# Altium footprint library Capacitor.PcbLib: 17 footprints (part 1 of 2)
Each footprint in its own frame and in the unit in brackets; x right, y up, seen from the top. Pads: shape width x height; smd on the part's side, far side on the other; paste and mask are expansions set on the pad; w line width, h text height; cw(c..) or ccw(c..) is an arc to the next point about the centre after c.
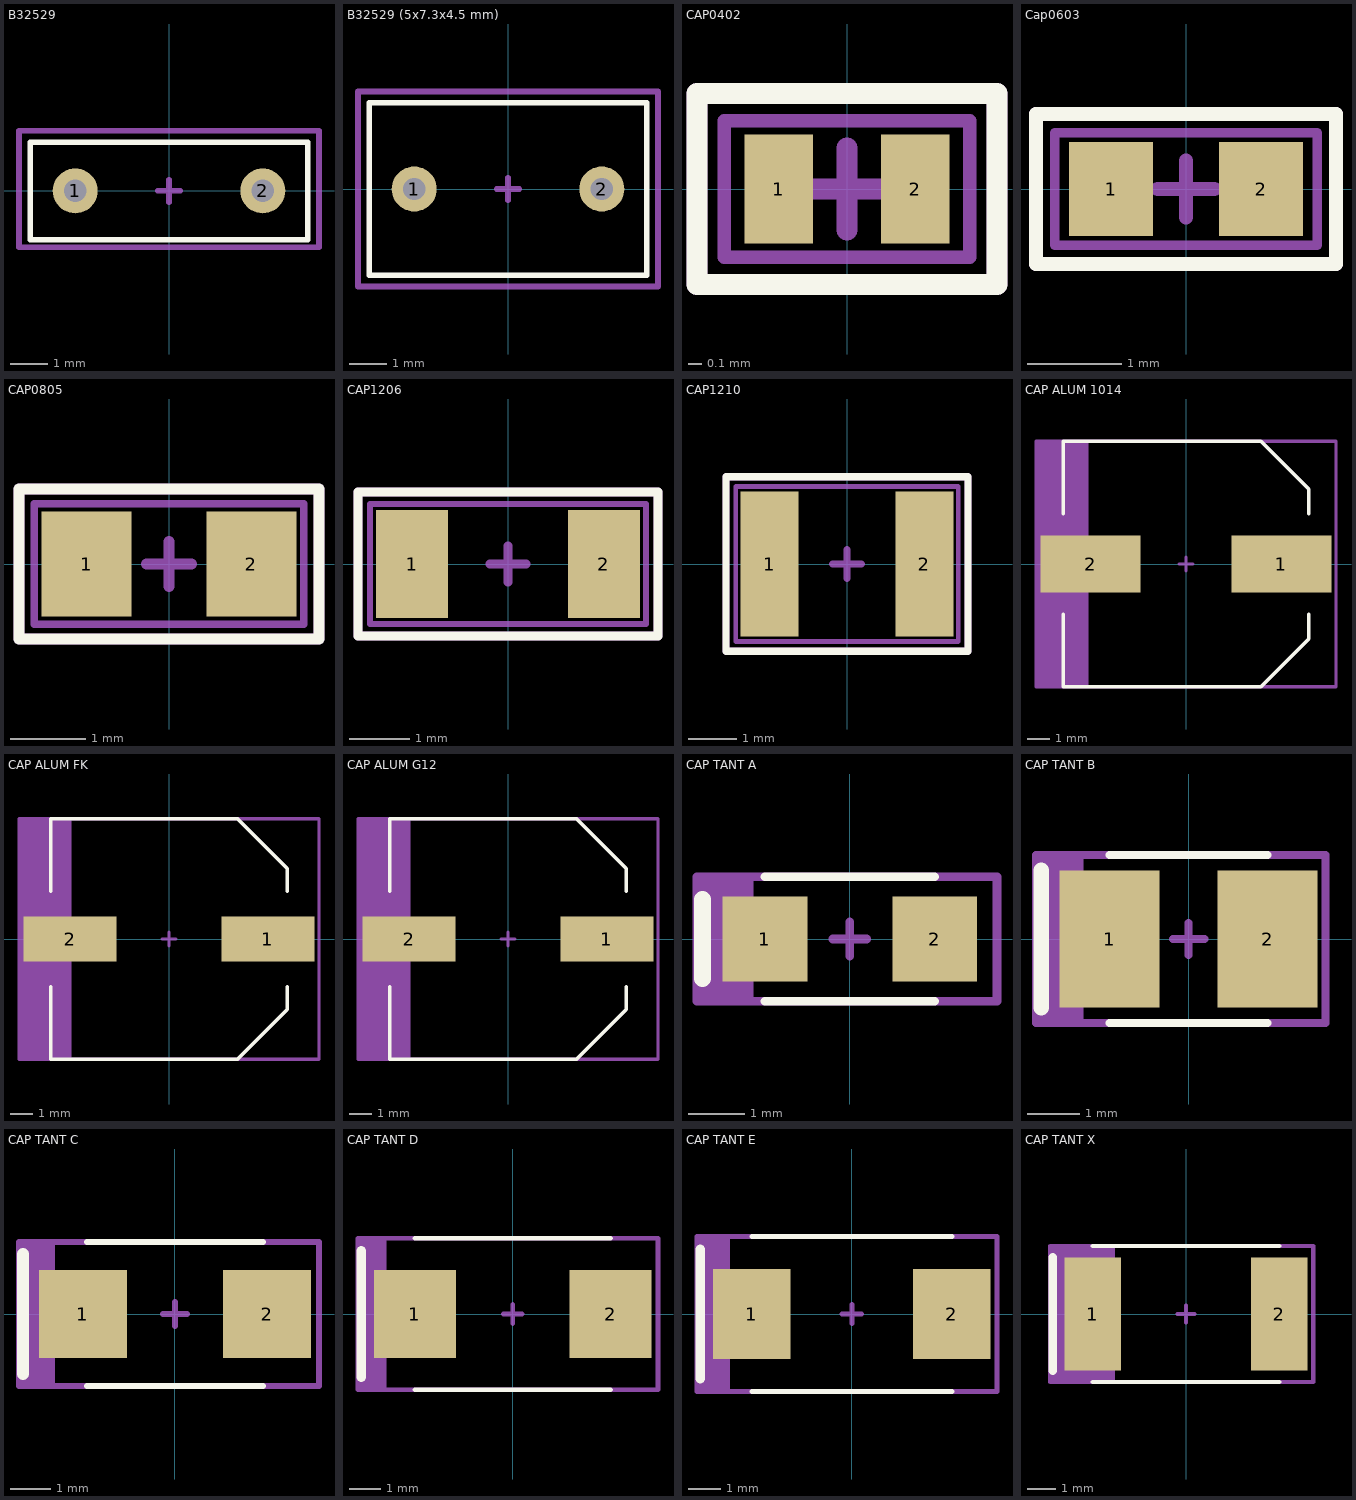
[diagram p0: the footprints below, top view; thin cyan lines are the x and y axes]

## B32529 [mm]
pads (2):
  round 1.2 hole 0.6: 1(-2.5,0) 2(2.5,0)
Top Overlay:
  lines w0.153: -3.7,-1.3 3.7,-1.3 3.7,1.3 -3.7,1.3 -3.7,-1.3
Top Assembly:
  lines w0.1: -3.7,-1.3 3.7,-1.3 3.7,1.3 -3.7,1.3 -3.7,-1.3
  text "'.Designator'" at -4.532,-0.333 h0.8
Top Courtyard:
  lines w0.153: -0.3,0 0.3,0 ; 0,-0.3 0,0.3 ; -4,-1.5 4,-1.5 4,1.6 -4,1.6 -4,-1.5
3D body "B32529C1104J189.STEP": height 6.5, standoff -6, extent -3.65,-1.25 3.65,1.25

## B32529 (5x7.3x4.5 mm) [mm]
pads (2):
  round 1.2 hole 0.6: 1(-2.5,0) 2(2.5,0)
Top Overlay:
  lines w0.153: -3.7,-2.3 3.7,-2.3 3.7,2.3 -3.7,2.3 -3.7,-2.3
Top Assembly:
  lines w0.1: -3.7,-2.3 3.7,-2.3 3.7,2.3 -3.7,2.3 -3.7,-2.3
  text "'.Designator'" at -4.532,-0.333 h0.8
Top Courtyard:
  lines w0.153: -4,2.575 -4,-2.6 4,-2.6 4,2.6 -4,2.6 ; -0.3,0 0.3,0 ; 0,-0.3 0,0.3
3D body "B32529C3104J289.STEP": height 9.5, standoff -6, extent -3.65,-2.25 3.65,2.25

## CAP0402 [mm]
pads (2):
  rect 0.5x0.8 smd: 1(-0.5,0) 2(0.5,0)
Top Overlay:
  lines w0.153: -1.1,-0.7 -1.1,0.7 1.1,0.7 1.1,-0.7 -1.1,-0.7
Top Assembly:
  lines w0.1: -0.9,-0.5 0.9,-0.5 0.9,0.5 -0.9,0.5 -0.9,-0.5
  text "'.Designator'" at -4.532,-0.333 h0.8
Top Courtyard:
  lines w0.153: -0.3,0 0.3,0 ; 0,-0.3 0,0.3 ; -1.1,-0.7 1.1,-0.7 1.1,0.7 -1.1,0.7 -1.1,-0.7
3D body "User Library-CAP0402-1.step": height 0.5, standoff 0, extent -0.5,-0.25 0.5,0.25

## Cap0603 [mm]
pads (2):
  rect 0.9x1 smd: 1(-0.8,0) 2(0.8,0)
Top Overlay:
  lines w0.153: -1.6,-0.8 1.6,-0.8 1.6,0.8 -1.6,0.8 -1.6,-0.8
Top Assembly:
  lines w0.1: -1.4,-0.6 1.4,-0.6 1.4,0.6 -1.4,0.6 -1.4,-0.6
  text "'.Designator'" at -4.532,-0.333 h0.8
Top Courtyard:
  lines w0.153: -0.3,0 0.3,0 ; 0,-0.3 0,0.3 ; -1.6,-0.8 1.6,-0.8 1.6,0.8 -1.6,0.8 -1.6,-0.8
3D body "User Library-CAP0603-2.step": height 0.8, standoff 0, extent -0.8,-0.4 0.8,0.4

## CAP0805 [mm]
pads (2):
  rect 1.2x1.4 smd: 1(-1.1,0) 2(1.1,0)
Top Overlay:
  lines w0.153: -2,-1 2,-1 2,1 -2,1 -2,-1
Top Assembly:
  lines w0.1: -1.8,-0.8 -1.8,0.8 1.8,0.8 1.8,-0.8 -1.8,-0.8
  text "'.Designator'" at -4.532,-0.333 h0.8
Top Courtyard:
  lines w0.153: -0.3,0 0.3,0 ; 0,-0.3 0,0.3 ; -2,-1 -2,1 2,1 2,-1 -2,-1
3D body "User Library-CAP0805-1.step": height 1.25, standoff 0, extent -1,-0.625 1,0.625

## CAP1206 [mm]
pads (2):
  rect 1.2x1.8 smd: 1(-1.6,0) 2(1.6,0)
Top Overlay:
  lines w0.153: -2.5,-1.2 -2.5,1.2 2.5,1.2 2.5,-1.2 -2.5,-1.2
Top Assembly:
  lines w0.1: -2.3,-1 -2.3,1 2.3,1 2.3,-1 -2.3,-1
  text "'.Designator'" at -4.532,-0.333 h0.8
Top Courtyard:
  lines w0.153: -0.3,0 0.3,0 ; 0,-0.3 0,0.3 ; -2.5,-1.2 -2.5,1.2 2.5,1.2 2.5,-1.2 -2.5,-1.2
3D body "User Library-CAP1206-1.step": height 1.6, standoff 0, extent -1.617,-0.8 1.583,0.8

## CAP1210 [mm]
pads (2):
  rect 1.2x3 smd: 1(-1.6,0) 2(1.6,0)
Top Overlay:
  lines w0.153: -2.5,-1.8 2.5,-1.8 2.5,1.8 -2.5,1.8 -2.5,-1.8
Top Assembly:
  lines w0.1: -2.3,-1.6 2.3,-1.6 2.3,1.6 -2.3,1.6 -2.3,-1.6
  text "'.Designator'" at -4.532,-0.333 h0.8
Top Courtyard:
  lines w0.153: -0.3,0 0.3,0 ; 0,-0.3 0,0.3 ; -2.5,-1.8 -2.5,1.8 2.5,1.8 2.5,-1.8 -2.5,-1.8
3D body "CL32A107MPVNNNE.STEP": height 2.5, standoff 0, extent -1.6,-1.4 1.6,1.4

## CAP ALUM 1014 [mm]
pads (2):
  rect 4.4x2.5 smd: 1(4.2,0) 2(-4.2,0)
Top Overlay:
  lines w0.153: -5.4,-2.2 -5.4,-5.4 3.3,-5.4 5.4,-3.3 5.4,-2.2 ; -5.4,2.2 -5.4,5.4 3.3,5.4 5.4,3.3 5.4,2.2
Top Assembly:
  rectangle: -6.6,-5.4 -4.3,5.4
  lines w0.1: -6.6,-5.4 6.6,-5.4 6.6,5.4 -6.6,5.4 -6.6,-5.4
  text "'.Designator'" at -4.532,-0.333 h0.8
Top Courtyard:
  lines w0.153: -0.3,0 0.3,0 ; 0,-0.3 0,0.3 ; -6.6,-5.4 -6.6,5.4 6.6,5.4 6.6,-5.4 -6.6,-5.4
3D body "User Library-CC1010.step": height 10.41, standoff 0, extent -5.5,-5.2 5.5,5.2

## CAP ALUM FK [mm]
pads (2):
  rect 4.1x2 smd: 1(4.35,0) 2(-4.35,0)
Top Overlay:
  lines w0.153: -5.2,-2.1 -5.2,-5.3 3,-5.3 5.2,-3.1 5.2,-2.1 ; -5.2,2.1 -5.2,5.3 3,5.3 5.2,3.1 5.2,2.1
Top Assembly:
  rectangle: -6.6,-5.3 -4.3,5.3
  lines w0.1: -6.6,-5.3 -6.6,5.3 6.6,5.3 6.6,-5.3 -6.6,-5.3
  text "'.Designator'" at -4.532,-0.333 h0.8
Top Courtyard:
  lines w0.153: -0.3,0 0.3,0 ; 0,-0.3 0,0.3 ; -6.6,-5.3 -6.6,5.3 6.6,5.3 6.6,-5.3 -6.6,-5.3
3D body "FK.STEP": height 10.3, standoff 0.1, extent -5.85,-5.15 5.85,5.15

## CAP ALUM G12 [mm]
pads (2):
  rect 4.1x2 smd: 1(4.35,0) 2(-4.35,0)
Top Overlay:
  lines w0.153: -5.2,-2.1 -5.2,-5.3 3,-5.3 5.2,-3.1 5.2,-2.1 ; -5.2,2.1 -5.2,5.3 3,5.3 5.2,3.1 5.2,2.1
Top Assembly:
  rectangle: -6.6,-5.3 -4.3,5.3
  lines w0.1: -6.6,-5.3 6.6,-5.3 6.6,5.3 -6.6,5.3 -6.6,-5.3
  text "'.Designator'" at -4.532,-0.333 h0.8
Top Courtyard:
  lines w0.153: -0.3,0 0.3,0 ; 0,-0.3 0,0.3 ; -6.6,-5.3 -6.6,5.3 6.6,5.3 6.6,-5.3 -6.6,-5.3
3D body "G12.STEP": height 12.47, standoff -0.03, extent -5.5,-5.15 5.5,5.15

## CAP TANT A [mm]
pads (2):
  rect 1.5x1.5 smd: 1(-1.5,0) 2(1.5,0)
Top Overlay:
  lines w0.153: -1.5,-1.1 1.5,-1.1 ; -1.5,1.1 1.5,1.1
  lines w0.3: -2.6,-0.7 -2.6,0.7
Top Assembly:
  rectangle: -2.7,-1.1 -1.7,1.1
  lines w0.1: -2.7,-1.1 -2.7,1.1 2.6,1.1 2.6,-1.1 -2.7,-1.1
  text "'.Designator'" at -4.532,-0.333 h0.8
Top Courtyard:
  lines w0.153: -0.3,0 0.3,0 ; 0,-0.3 0,0.3 ; -2.7,-1.1 -2.7,1.1 2.6,1.1 2.6,-1.1 -2.7,-1.1
3D body "User Library-AVX_ACASE.step": height 1.71, standoff 0, extent -1.7,-0.84 1.7,0.84

## CAP TANT B [mm]
pads (2):
  rect 1.9x2.6 smd: 1(-1.5,0) 2(1.5,0)
Top Overlay:
  lines w0.153: -1.5,-1.6 1.5,-1.6 ; -1.5,1.6 1.5,1.6
  lines w0.3: -2.8,-1.3 -2.8,1.3
Top Assembly:
  rectangle: -2.9,-1.6 -2,1.6
  lines w0.1: -2.9,-1.6 -2.9,1.6 2.6,1.6 2.6,-1.6 -2.9,-1.6
  text "'.Designator'" at -4.532,-0.333 h0.8
Top Courtyard:
  lines w0.153: -0.3,0 0.3,0 ; 0,-0.3 0,0.3 ; -2.9,-1.6 2.6,-1.6 2.6,1.6 -2.9,1.6 -2.9,-1.6
3D body "User Library-AVX_BCASE.step": height 2.03, standoff 0, extent -1.85,-1.465 1.85,1.465

## CAP TANT C [mm] "CAP TANT C"
pads (2):
  rect 2.2x2.2 smd: 1(-2.3,0) 2(2.3,0)
Top Overlay:
  lines w0.153: -2.2,-1.8 2.2,-1.8 ; -2.2,1.8 2.2,1.8
  lines w0.3: -3.8,-1.5 -3.8,1.5
Top Assembly:
  rectangle: -3.9,-1.8 -3,1.8
  lines w0.1: -3.9,-1.8 -3.9,1.8 3.6,1.8 3.6,-1.8 -3.9,-1.8
  text "'.Designator'" at -4.532,-0.333 h0.8
Top Courtyard:
  lines w0.153: -0.3,0 0.3,0 ; 0,-0.3 0,0.3 ; -3.9,-1.8 3.6,-1.8 3.6,1.8 -3.9,1.8 -3.9,-1.8
3D body "User Library-AVX_C_CASE.step": height 2.7, standoff 0, extent -3.05,-1.675 3.05,1.675

## CAP TANT D [mm]
pads (2):
  rect 2.6x2.8 smd: 1(-3.1,0) 2(3.1,0)
Top Overlay:
  lines w0.153: -3.1,-2.4 3.1,-2.4 ; -3.1,2.4 3.1,2.4
  lines w0.3: -4.8,-2 -4.8,2
Top Assembly:
  rectangle: -4.9,-2.4 -4,2.4
  lines w0.1: -4.9,-2.4 4.6,-2.4 4.6,2.4 -4.9,2.4 -4.9,-2.4
  text "'.Designator'" at -4.532,-0.333 h0.8
Top Courtyard:
  lines w0.153: -0.3,0 0.3,0 ; 0,-0.3 0,0.3 ; -4.9,-2.4 4.6,-2.4 4.6,2.4 -4.9,2.4 -4.9,-2.4
3D body "User Library-AVX_D_CASE.step": height 3.01, standoff 0, extent -3.7,-2.225 3.7,2.225

## CAP TANT E [mm] "Molded Capacitor, 2-Leads, Body 7,45x4,45mm, IPC Medium Density"
height 4
pads (2):
  rect 2.4x2.8 smd: 1(-3.1,0) 2(3.1,0)
Top Overlay:
  lines w0.153: -3.1,-2.4 3.1,-2.4 ; -3.1,2.4 3.1,2.4
  lines w0.3: -4.7,-2 -4.7,2
Top Assembly:
  rectangle: -4.8,-2.4 -3.778,2.4
  lines w0.1: -4.8,-2.4 4.5,-2.4 4.5,2.4 -4.8,2.4 -4.8,-2.4
  text "'.Designator'" at -4.532,-0.333 h0.8
Top Courtyard:
  lines w0.153: -0.3,0 0.3,0 ; 0,-0.3 0,0.3 ; -4.8,-2.4 4.5,-2.4 4.5,2.4 -4.8,2.4 -4.8,-2.4
3D body "User Library-AVX_E_CASE.step": height 4.2, standoff 0, extent -3.7,-2.225 3.7,2.225

## CAP TANT X [mm]
pads (2):
  rect 2x4 smd: 1(-3.3,0) 2(3.3,0)
Top Overlay:
  lines w0.153: -3.3,-2.4 3.3,-2.4 ; -3.3,2.4 3.3,2.4
  lines w0.3: -4.7,-2 -4.7,2
Top Assembly:
  rectangle: -4.8,-2.4 -2.5,2.4
  lines w0.1: -4.8,-2.4 -4.8,2.4 4.5,2.4 4.5,-2.4 -4.8,-2.4
  text "'.Designator'" at -4.532,-0.333 h0.8
Top Courtyard:
  lines w0.153: -0.3,0 0.3,0 ; 0,-0.3 0,0.3 ; -4.8,-2.4 4.5,-2.4 4.5,2.4 -4.8,2.4 -4.8,-2.4
3D body "User Library-AVX_X_CASE.SLDPRT": height 4.2, standoff 0, extent -3.7,-2.225 3.7,2.225